# EAGLE library part RESISTOR_CRA06S08 (library zortness)
4-Channel Resistor Array Vishay CRA06S08 series DigiKey example <http://www.digikey.com/product-detail/en/CRA06S0831K00JTA/CRA6S81.0KCT-ND/1285879> Datasheet <http://www.vishay.com/docs/31002/cra06es.pdf>
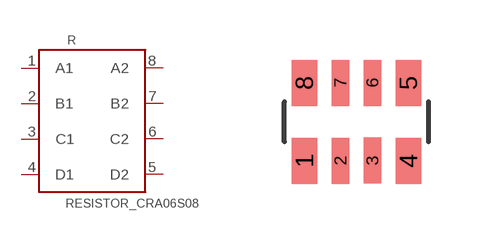
[diagram p12: symbol with the pads of 1206X4RESISTORARRAY; footprint 1206X4RESISTORARRAY]

Designator prefix R

## RESISTOR_CRA06S08  [1206X4RESISTORARRAY]
1  A1  pas
2  B1  pas
3  C1  pas
4  D1  pas
5  D2  pas
6  C2  pas
7  B2  pas
8  A2  pas

## Footprint 1206X4RESISTORARRAY (pad centres in mm)
1206 4x Resistor Array (Vishay S Series) Used by Vishay thick film resistor arrays with 4 elements and longer end terminals. DigiKey Vishay 1k x 4 <http://www.digikey.com/product-detail/en/CRA06S0831K00JTA/CRA6S81.0KCT-ND/1285879> Datasheet <http://www.vishay.com/docs/31002/cra06es.pdf>
smd 0.63 x 1.15: 1 -1.3,-0.975; 4 1.3,-0.975; 5 1.3,0.975; 8 -1.3,0.975
smd 0.44 x 1.15: 2 -0.4,-0.975; 3 0.4,-0.974; 6 0.4,0.975; 7 -0.4,0.975